# Altium schematic symbol library Regulator_LT_LT1376CS8#PBF.SchLib: 1 symbol
Pins are listed as number, name and electrical type; pins without a type are passive.

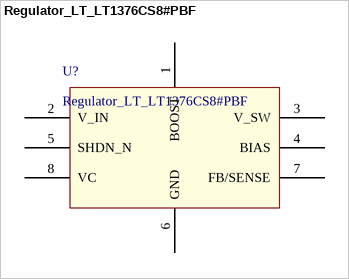
[diagram p0: symbol Regulator_LT_LT1376CS8#PBF]

## Regulator_LT_LT1376CS8#PBF
designator U?
IC REG BUCK ADJ 1.5A 8SOIC
pins: 1 BOOST, 2 V_IN (power), 3 V_SW (power), 4 BIAS, 5 SHDN_N, 6 GND (power), 7 FB/SENSE (power), 8 VC